# Altium footprint library PcbLib1.PcbLib: 9 footprints
Each footprint in its own frame and in the unit in brackets; x right, y up, seen from the top. Pads: shape width x height; smd on the part's side, far side on the other; paste and mask are expansions set on the pad; w line width, h text height; cw(c..) or ccw(c..) is an arc to the next point about the centre after c.
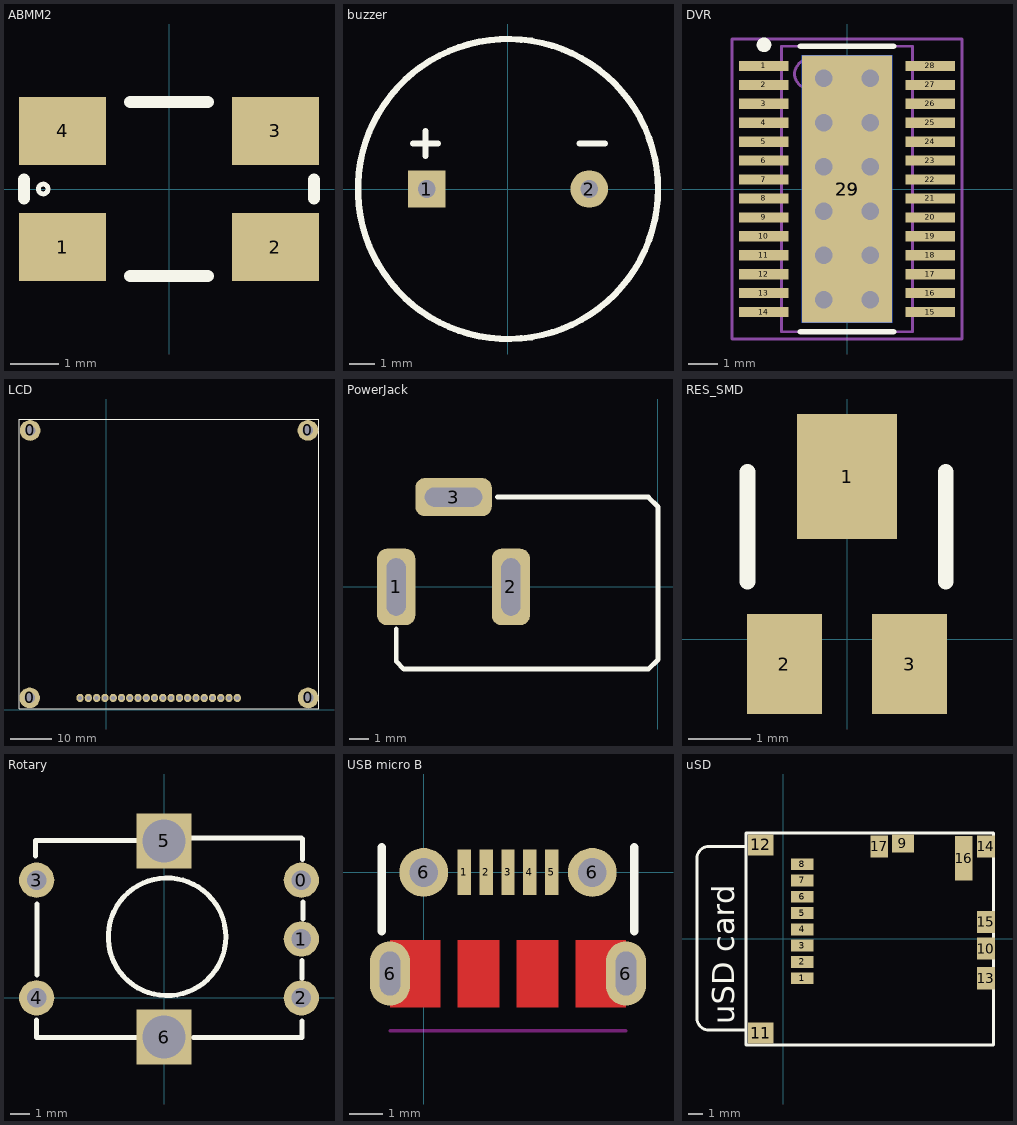
[diagram p0: the footprints below, top view; thin cyan lines are the x and y axes]

## ABMM2 [mm]
pads (4):
  rect 1.8x1.4 smd: 1(-2.2,-1.2) 2(2.2,-1.2) 3(2.2,1.2) 4(-2.2,1.2)
Top Overlay:
  circle w0.1: c-2.6,0 r0.1
  lines w0.25: -3,-0.2 -3,0.2 ; -0.8,-1.8 0.8,-1.8 ; -0.8,1.8 0.8,1.8 ; 3,-0.2 3,0.2

## buzzer [mm]
pads (2):
  rect 1.5x1.5 hole 0.7: 1(-3.24,0.01)
  round 1.5 hole 0.7: 2(3.26,0.01)
Top Overlay:
  circle w0.254: c0.01,0.01 r6
  lines w0.25: -3.79,1.83 -2.79,1.83 ; -3.29,1.33 -3.29,2.33 ; 2.88,1.83 3.88,1.83
3D body: height 0, standoff 0, extent -5.999,-5.999 6.019,6.019

## DVR [mm]
pads (30):
  rect 1.7x0.35 smd: 1(-2.85,4.225) 2(-2.85,3.575) 3(-2.85,2.925) 4(-2.85,2.275) 5(-2.85,1.625) 6(-2.85,0.975) 7(-2.85,0.325) 8(-2.85,-0.325) 9(-2.85,-0.975) 10(-2.85,-1.625) 11(-2.85,-2.275) 12(-2.85,-2.925) 13(-2.85,-3.575) 14(-2.85,-4.225) 15(2.85,-4.225) 16(2.85,-3.575) 17(2.85,-2.925) 18(2.85,-2.275) 19(2.85,-1.625) 20(2.85,-0.975) 21(2.85,-0.325) 22(2.85,0.325) 23(2.85,0.975) 24(2.85,1.625) 25(2.85,2.275) 26(2.85,2.925) 27(2.85,3.575) 28(2.85,4.225)
  rect 3.1x9.18 smd: 29(0,0)
  rect 3.1x9.18 smd far side: 29(0,0)
via 0.8,-3.8 diameter 1 hole 0.6
via -0.8,-3.8 diameter 1 hole 0.6
via 0.8,3.8 diameter 1 hole 0.6
via -0.8,3.8 diameter 1 hole 0.6
via -0.8,-0.76 diameter 1 hole 0.6
via -0.8,2.28 diameter 1 hole 0.6
via 0.8,-2.28 diameter 1 hole 0.6
via -0.8,-2.28 diameter 1 hole 0.6
via 0.8,-0.76 diameter 1 hole 0.6
via 0.8,0.76 diameter 1 hole 0.6
via -0.8,0.76 diameter 1 hole 0.6
via 0.8,2.28 diameter 1 hole 0.6
Top Overlay:
  circle w0.25: c-2.85,4.95 r0.125
  lines w0.2: -1.6,-4.9 1.6,-4.9 ; -1.6,4.9 1.6,4.9
Mechanical 13:
  circle w0.1: c-1.3,3.95 r0.5
  lines w0.1: -2.25,-4.9 -2.25,4.9 2.25,4.9 2.25,-4.9 -2.25,-4.9
Mechanical 15:
  lines w0.1: -0.5,0 0.5,0 ; 0,-0.5 0,0.5 ; -3.95,-5.15 -3.95,5.15 3.95,5.15 3.95,-5.15 -3.95,-5.15
3D body: height 1.2, standoff 0.25, extent -2.25,-4.9 2.25,4.9

## LCD [mm]
pads (24):
  round 5 hole 2.5: 0(-18.52,2.88) 0(-18.4,67.51) 0(48.73,67.52) 0(48.78,2.87)
  oval 1.75x2 hole 1: 1(31.67,2.87) 2(29.67,2.87) 3(27.67,2.87) 4(25.67,2.87) 5(23.67,2.87) 6(21.67,2.87) 7(19.67,2.87) 8(17.67,2.87) 9(15.67,2.87) 10(13.67,2.87) 11(11.67,2.87) 12(9.67,2.87) 13(7.67,2.87) 14(5.67,2.87) 15(3.67,2.87) 16(1.67,2.87) 17(-0.33,2.87) 18(-2.33,2.87) 19(-4.33,2.87) 20(-6.33,2.87)
Top Overlay:
  lines w0.254: -21.091,0.278 -21.091,70.178 ; -21.09,0.28 51.41,0.28 51.41,70.18 ; -21.09,70.185 51.41,70.185

## PowerJack [mm]
pads (3):
  rrect50% 2x4 hole 1 slot 3 at 90 deg: 1(-13.7,0) 2(-7.7,0)
  rrect50% 4x2 hole 1 slot 3 at 0 deg: 3(-10.7,4.7)
Top Overlay:
  lines w0.25: -13.7,-2.2 -13.7,-3.9 -13.3,-4.3 -0.5,-4.3 0,-3.8 0,4.2 -0.5,4.7 -8.4,4.7

## RES_SMD [mm]
pads (3):
  rect 1.6x2 smd: 1(0,2.6)
  rect 1.2x1.6 smd: 2(-1,-0.4) 3(1,-0.4)
Top Overlay:
  lines w0.254: -1.59,0.92 -1.59,2.67 ; 1.58,0.92 1.58,2.67

## Rotary [mm]
pads (7):
  round 1.8 hole 1: 0(7,6) 1(7,3) 2(7,0) 3(-6.5,6) 4(-6.5,0)
  rect 2.8x2.8 hole 2.2: 5(0,8) 6(0,-2)
Top Overlay:
  circle w0.254: c0.15,3.11 r3
  lines w0.254: -6.55,7.24 -6.55,8.02 ; -6.52,7.99 -6.55,8.02 ; -6.5,-1.13 -6.5,-2.03 -1.41,-2.03 ; -6.49,1.17 -6.49,4.78 ; -1.3,8.02 -6.55,8.02 ; 1.36,8.16 7,8.16 7.06,8.1 7.06,7.06 ; 1.5,-2.03 7.04,-2.03 7.04,-1.18 ; 7.03,0.99 7.03,1.9 ; 7.09,4.01 7.09,4.88

## USB micro B [mm]
pads (9):
  rect 0.4x1.35 smd: 1(1.2,0) 2(1.85,0) 3(2.5,0) 4(3.15,0) 5(3.8,0)
  oval 1.2x1.9 hole 0.6 slot 1.3 at 90 deg: 6(-1,-3) 6(6,-3)
  round 1.45 hole 0.85: 6(0,0) 6(5,0)
Top Layer:
  rectangle: -1,-4 0.5,-2
  rectangle: 4.5,-4 6,-2
  rectangle: 1,-4 2.25,-2
  rectangle: 2.75,-4 4,-2
Top Overlay:
  lines w0.25: -1.25,-1.75 -1.25,0.75 ; 6.25,-1.75 6.25,0.75
Keep-Out Layer:
  lines w0.1: -1,-4.7 6,-4.7

## uSD [mm]
pads (17):
  rect 1.5x0.8 smd: 1(1.265,-2.673) 2(1.265,-1.573) 3(1.265,-0.473) 4(1.265,0.627) 5(1.265,1.727) 6(1.265,2.827) 7(1.265,3.927) 8(1.265,5.027)
  rect 1.5x1.2 smd: 9(8.065,6.427)
  rect 1.2x1.5 smd: 10(13.665,-0.673) 13(13.665,-2.673) 14(13.665,6.227) 15(13.665,1.127) 17(6.465,6.227)
  rect 1.7x1.4 smd: 11(-1.535,-6.373) 12(-1.535,6.327)
  rect 1.2x3 smd: 16(12.165,5.427)
Top Overlay:
  lines w0.203: -2.535,-6.173 -5.035,-6.173 cw(c-5.035,-5.373) -5.835,-5.373 -5.835,5.427 cw(c-5.035,5.427) -5.035,6.227 -2.535,6.227 ; -2.535,-7.173 -2.535,7.127 14.165,7.127 14.165,-7.173 -2.535,-7.173
  text "uSD card" at -3.335,-5.773 h1.5